# Altium footprint library PCB - CONNECTOR - SAMTEC TFM-104-02-L-S-WT.PCBLIB: 1 footprints
Each footprint in its own frame and in the unit in brackets; x right, y up, seen from the top. Pads: shape width x height; smd on the part's side, far side on the other; paste and mask are expansions set on the pad; w line width, h text height; cw(c..) or ccw(c..) is an arc to the next point about the centre after c.
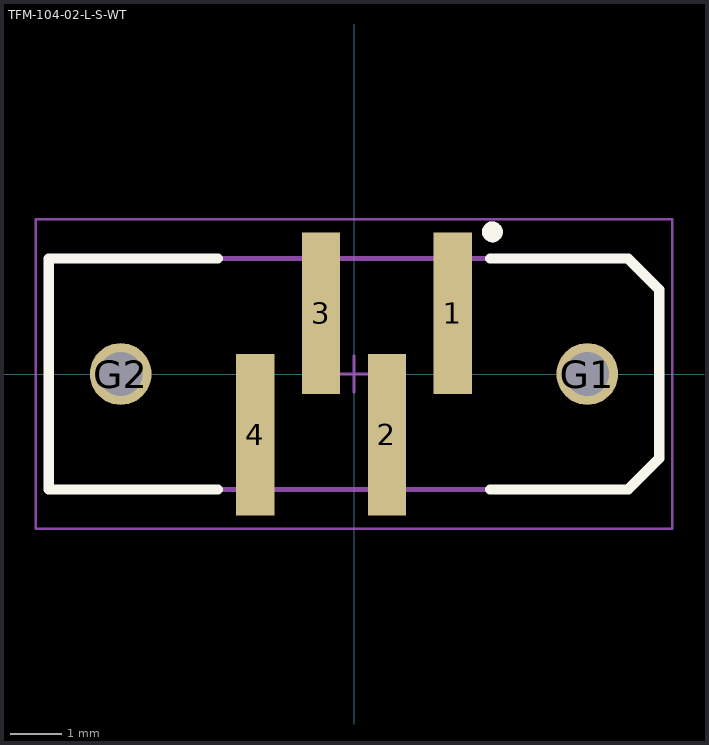
[diagram p0: the footprint, top view; thin cyan lines are the x and y axes]

## TFM-104-02-L-S-WT [mm]
pads (6):
  rect 0.74x3.12 smd: 1(1.905,1.17) 2(0.635,-1.17) 3(-0.635,1.17) 4(-1.905,-1.17)
  round 1.19 hole 0.84: G1(4.495,0) G2(-4.495,0)
Top Overlay:
  circle w0.2: c2.667,2.738 r0.1
  lines w0.2: -2.625,-2.225 -5.88,-2.225 -5.88,2.225 -2.625,2.225 ; 2.625,-2.225 5.28,-2.225 5.88,-1.625 5.88,1.625 5.28,2.225 2.625,2.225
Top Paste:
  circle w0.675: c-4.495,0 r0.337
  circle w0.675: c4.495,0 r0.337
Top Assembly:
  circle w0.2: c2.667,2.738 r0.1
  lines w0.1: -5.88,-2.225 -5.88,2.225 5.28,2.225 5.88,1.625 5.88,-1.625 5.28,-2.225 -5.88,-2.225
Top Courtyard:
  lines w0.05: -6.13,-2.98 6.13,-2.98 6.13,2.98 -6.13,2.98 -6.13,-2.98
Top Designator:
  text ".Designator" at -0.497,-0.508 h0.76
Top Component Center:
  lines w0.05: -0.35,0 0.35,0 ; 0,-0.35 0,0.35
3D body "TFM-104-02-L-S-WT.stp": height 5.59, standoff -2.36, extent -5.88,-2.349 5.88,2.35